# EAGLE library part TPS7A6650QDGNRQ1 (library FA3D_lib)
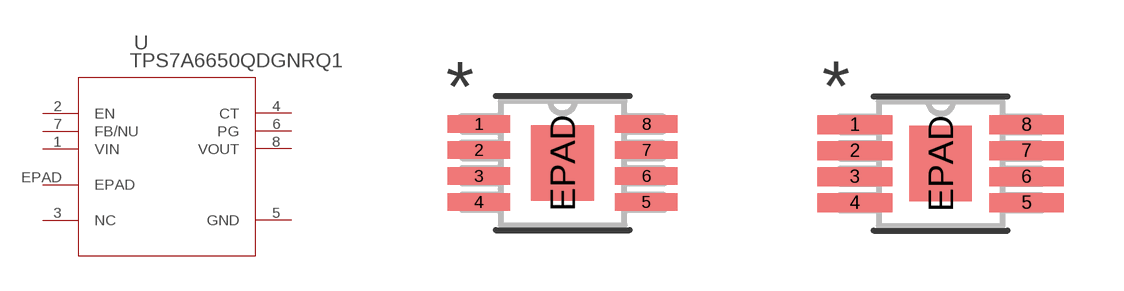
[diagram p18: symbol with the pads of DGN8_1P57X1P89; footprints DGN8_1P57X1P89, DGN8_1P57X1P89-M]

Designator prefix U

## TPS7A6650QDGNRQ1 (MANUFACTURER_PART_NUMBER: TPS7A6650QDGNRQ1; VENDOR: Texas Instruments)  [DGN8_1P57X1P89]
1  VIN  in
2  EN  in
3  NC  nc
4  CT  out
5  GND  pwr
6  PG  out
7  FB/NU  in
8  VOUT  out
EPAD  EPAD  pas

## TPS7A6650QDGNRQ1DGN8_1P57X1P89-M (MANUFACTURER_PART_NUMBER: TPS7A6650QDGNRQ1; VENDOR: Texas Instruments)  [DGN8_1P57X1P89-M]
Pads as for DGN8_1P57X1P89

## TPS7A6650QDGNRQ1DGN8_1P57X1P89-L (MANUFACTURER_PART_NUMBER: TPS7A6650QDGNRQ1; VENDOR: Texas Instruments)  [DGN8_1P57X1P89-L]
Pads as for DGN8_1P57X1P89

## Footprint DGN8_1P57X1P89 (pad centres in mm)
smd 1.564 x 0.441: 1 -2.095,0.975; 2 -2.095,0.325; 3 -2.095,-0.325; 4 -2.095,-0.975; 5 2.095,-0.975; 6 2.095,-0.325; 7 2.095,0.325; 8 2.095,0.975
smd 1.57 x 1.89: EPAD 0,0

## Footprint DGN8_1P57X1P89-M (pad centres in mm)
smd 1.864 x 0.481: 1 -2.146,0.975; 2 -2.146,0.325; 3 -2.146,-0.325; 4 -2.146,-0.975; 5 2.146,-0.975; 6 2.146,-0.325; 7 2.146,0.325; 8 2.146,0.975
smd 1.57 x 1.89: EPAD 0,0

## Footprint DGN8_1P57X1P89-L (pad centres in mm)
smd 1.264 x 0.401: 1 -2.046,0.975; 2 -2.046,0.325; 3 -2.046,-0.325; 4 -2.046,-0.975; 5 2.046,-0.975; 6 2.046,-0.325; 7 2.046,0.325; 8 2.046,0.975
smd 1.57 x 1.89: EPAD 0,0